# EAGLE library part MICRO-USB (library usb-connector)
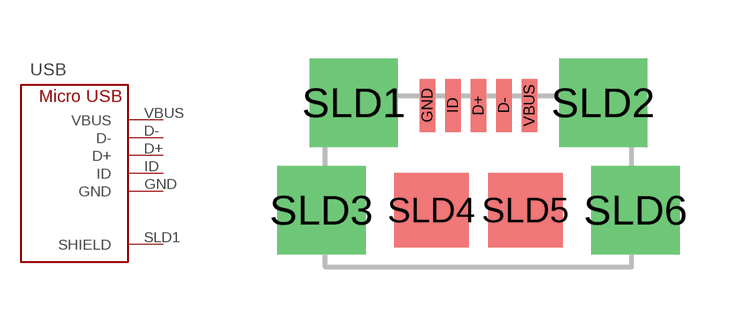
[diagram p1: symbol with the pads of ZX62B5PA; footprint ZX62B5PA]

Designator prefix USB

## MICRO-USB  [ZX62B5PA]
D+  D+
D-  D-
GND  GND  pwr
ID  ID
SLD1  SHIELD
SLD2  SHIELD2
SLD3  SHIELD3
SLD4  SHIELD4
SLD5  SHIELD5
SLD6  SHIELD6
VBUS  VBUS  pwr

## Footprint ZX62B5PA (pad centres in mm)
smd 0.4 x 1.35: D+ 0,4.125; D- 0.65,4.125; GND -1.3,4.125; ID -0.65,4.125; VBUS 1.3,4.125
drill 1.499 pad 2.032 square: SLD1 -3.175,4.191; SLD2 3.175,4.191; SLD3 -4,1.45; SLD6 4,1.45
smd 1.9 x 1.9: SLD4 -1.2,1.45; SLD5 1.2,1.45